# EAGLE library part OP-07DPS (library OP-07DPS)
Operational Amplifiers - Op Amps Low-Offset voltage (0.15mV) single operational amplifier 8-SO 0 to 70 Source: Datasheet <https://www.ti.com/lit/ds/symlink/op07c.pdf?HQS=dis-dk-null-digikeymode-dsf-pf-null-wwe&ts=1640609008089&ref_url=http%3A%2F%2Fcomponentsearchengine.com%2F>
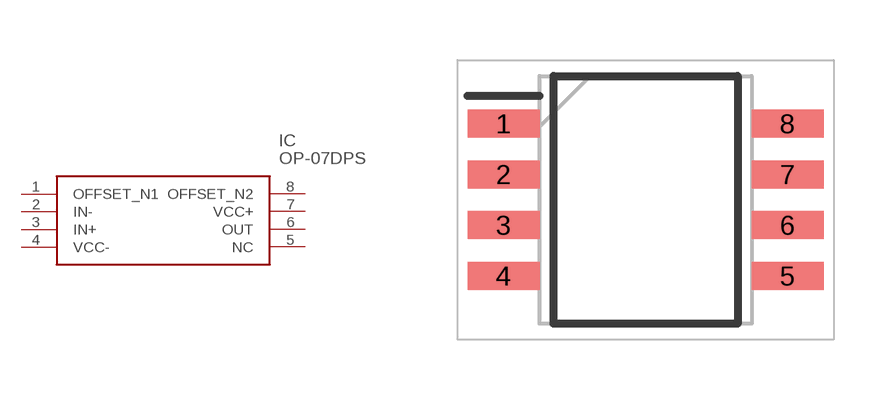
[diagram p0: symbol with the pads of SOIC127P780X200-8N; footprint SOIC127P780X200-8N]

Designator prefix IC

## OP-07DPS (Description: Operational Amplifiers - Op Amps Low-Offset voltage (0.15mV) single operational amplifier 8-SO 0 to 70; Height: 2mm; Manufacturer_Name: Texas Instruments; Manufacturer_Part_Number: OP-07DPS; Mouser_Part_Number: 595-OP-07DPS; Mouser_Price-Stock: https://www.mouser.co.uk/ProductDetail/Texas-Instruments/OP-07DPS?qs=byeeYqUIh0NQesBCD7yHvw%3D%3D)  [SOIC127P780X200-8N]
1  OFFSET_N1
2  IN-
3  IN+
4  VCC-
5  NC  nc
6  OUT
7  VCC+
8  OFFSET_N2

## Footprint SOIC127P780X200-8N (pad centres in mm)
PS (R-PDSO-G8)
smd 1.8 x 0.7: 1 -3.55,1.905; 2 -3.55,0.635; 3 -3.55,-0.635; 4 -3.55,-1.905; 5 3.55,-1.905; 6 3.55,-0.635; 7 3.55,0.635; 8 3.55,1.905